# Altium integrated library Linear Technology Power Management Hot Swap Controllers.IntLib: 992 symbols (part 76 of 93)
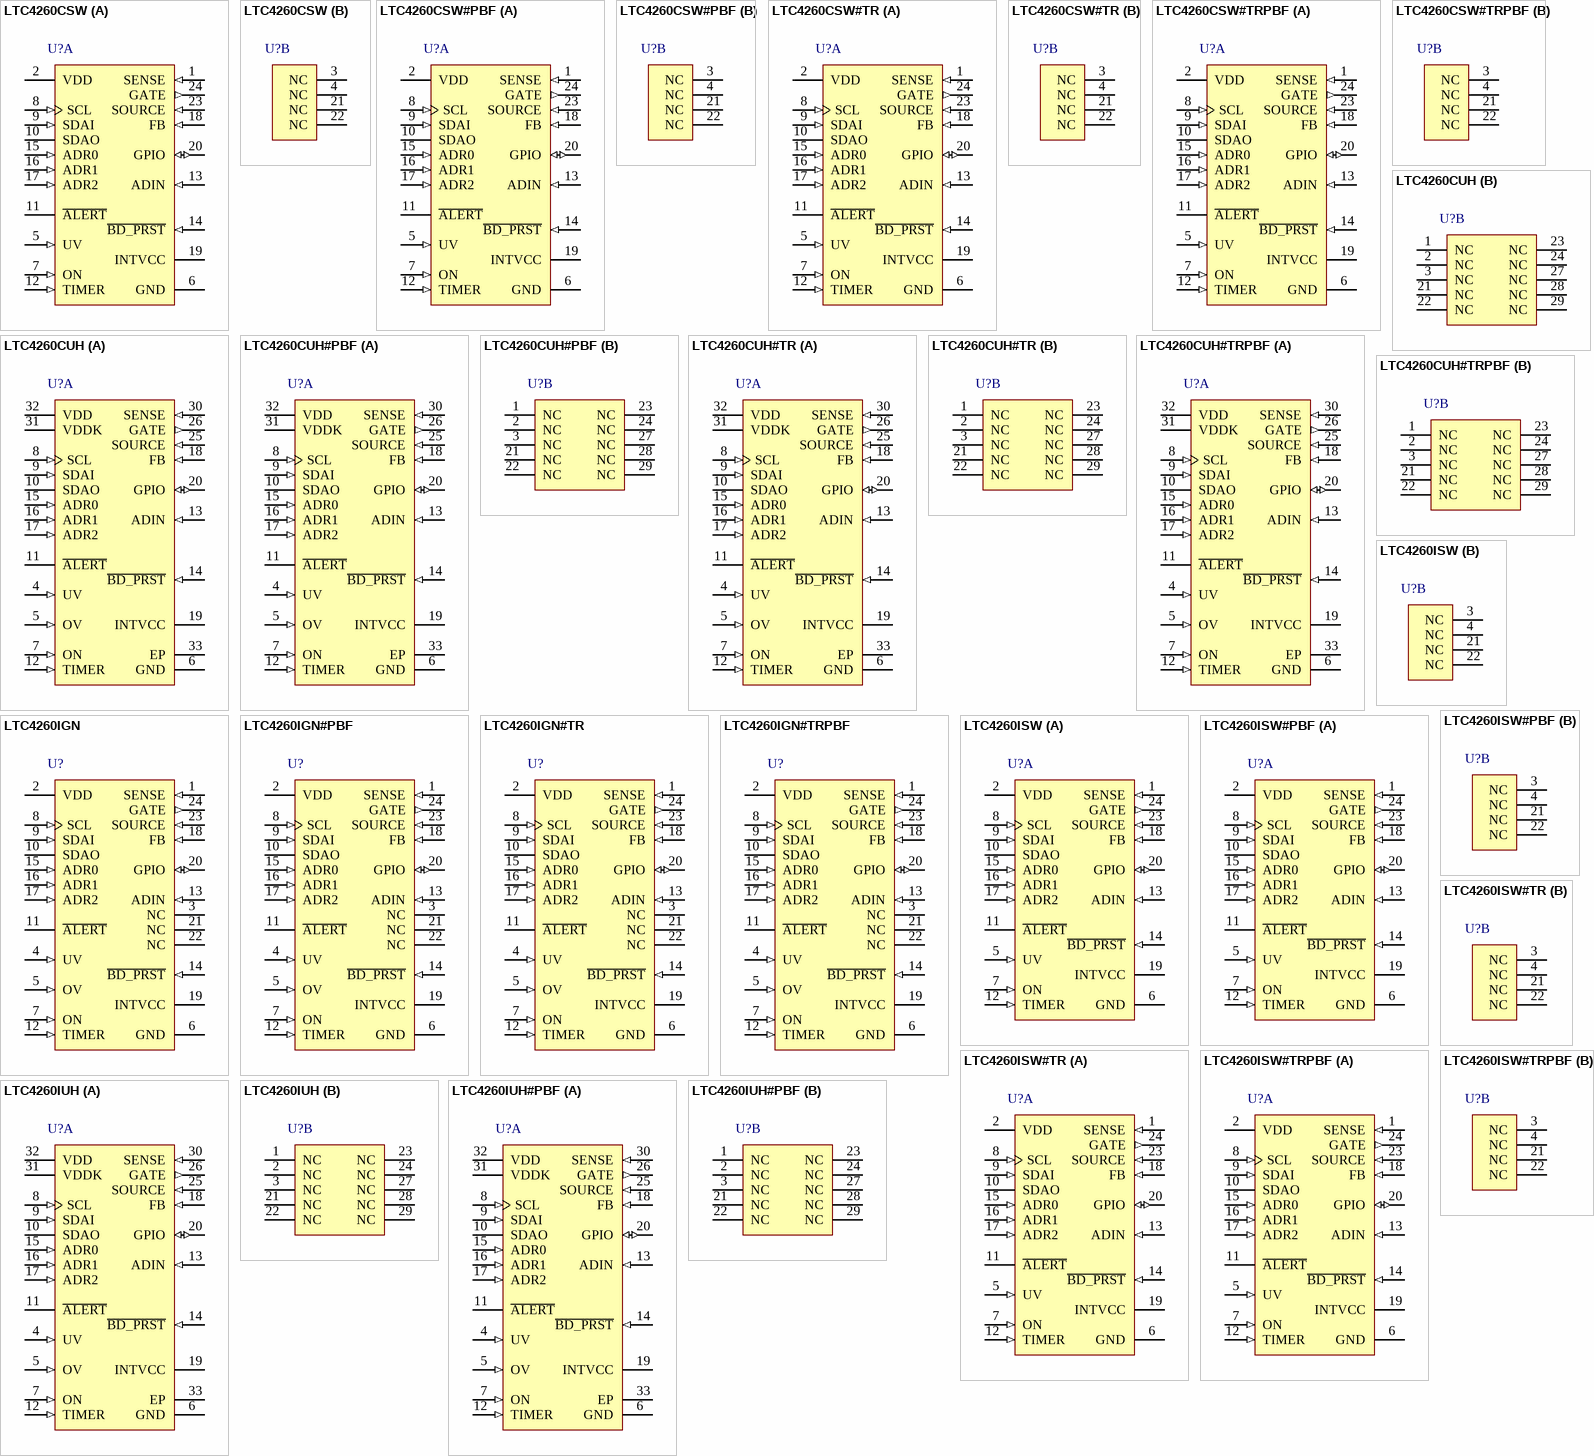
[diagram p112: symbols LTC4260CSW to LTC4260IUH#PBF]

## LTC4260IUH#PBF
designator U?
Positive High Voltage Hot Swap Controller with I2C Compatible Monitoring, 8.5 to 80 V Vin, 32-pin QFN (UH-32), -40 to 85 degC, Pb-Free; Manufacturer: Linear Technology; PartNumber: LTC4260IUH#PBF; Active Limiting: yes; ADC: 8-bit; Circuit Breaker Accuracy(%): 10; Circuit Breaker Threshold: 50 mV; Circuit Breakers(#): 1; Extended Temp: C, I; Fast Comparator: no; In-Rush Current: Active; DatasheetVersion: Rev. C; PackageVersion: Rev. D, 06/2010; PackageReference: UH-32; PackageDescription: 32-Pin Plastic QFN, Body 5 x 5 mm, Pitch 0.5 mm; Supplier 1: Digi-Key; Supplier Part Number 1: LTC4260IUH#PBF-ND; Supplier 2: Farnell; Supplier Part Number 2: 2295343; Supplier 3: Newark; Supplier Part Number 3: 56M9128; Fault: yes; Foldback: yes; Power Good: yes; Reset: no; RoHS: TRUE; Vin Range: 8.5 to 80 V; Mounting Technology: Surface Mount; Code_JEDEC: MO-220; ComponentLink1Description: Manufacturer URL; ComponentLink1URL: http://www.linear.com/; ComponentLink2Description: Datasheet; ComponentLink2URL: http://cds.linear.com/docs/en/datasheet/4260fc.pdf; ComponentLink3Description: Package Specification; ComponentLink3URL: http://cds.linear.com/docs/en/packaging/QFN_32_05-08-1693.pdf
footprint LT-UH-32_N (QFN, 32-Leads, Body 5.1x5.1mm, Pitch 0.5mm, Thermal Pad 3.45X3.45mm, IPC Medium Density)
footprint LT-UH-32_L (QFN, 32-Leads, Body 5.1x5.1mm, Pitch 0.5mm, Thermal Pad 3.45X3.45mm, IPC High Density)
footprint LT-UH-32_M (QFN, 32-Leads, Body 5.1x5.1mm, Pitch 0.5mm, Thermal Pad 3.45X3.45mm, IPC Low Density)
part A pins: 4 UV (in) "Undervoltage Comparator Input. Connect this pin to an external resistive divider from VDD. If the voltage at this pin falls below 3.12V, an undervoltage fault is detected and the switch turns off. Pulling this pin below 1.2V (See Datasheet)", 5 OV (in) "Overvoltage Comparator Input. Connect this pin to an external resistive divider from VDD. If the voltage at this pin rises above 3.5V, an overvoltage fault is detected and the switch turns off. Tie to GND if unused.", 6 GND (power) "Device Ground.", 7 ON (in) "On Control Input. A rising edge turns on the external N-channel FET and a falling edge turns it off. This pin is also used to configure the state of the FET ON bit (and hence the external FET) at power up. For example if the (See Datasheet)", 8 SCL (in) "Serial Bus Clock Input. Data at the SDA pin is shifted in or out on rising edges of SCL. This is a high impedance pin that is generally driven by an open-collector output from a master controller. An external pull-up (See Datasheet)", 9 SDAI (in) "Serial Bus Data Input. A high impedance input used for shifting in address, command or data bits. Normally tied to SDAO to form the SDA line.", 10 SDAO (oc) "Serial Bus Data Output. Open-drain output used for sending data back to the master controller or acknowledging a write operation. Normally tied to SDAI to form the SDA line. An external pull-up resistor or current source is (See Datasheet)", 11 ~{ALERT} (oc) "Fault Alert Output. Open-drain logic output that can be pulled to ground when a fault occurs to alert the host controller. A fault alert is enabled by the ALERT register. This device is compatible with SMBus alert protocol. (See Datasheet)", 12 TIMER (in) "Timer Input. Connect a capacitor between this pin and ground to set a 12ms/uF duration for current limit before the switch is turned off. The duration of the off time is 518ms/uF when autoretry during current limit is (See Datasheet)", 13 ADIN (in) "ADC Input. A voltage between 0V and 2.56V applied to this pin can be measured by the onboard ADC. Tie to ground if unused.", 14 ~{BD_PRST} (in) "Board Present Input. Ground this pin to enable the N-channel FET to turn on after 100ms debounce delay. When this pin is high, the FET is off. An internal 10uA current source pulls up this pin. Transitions on this pin will (See Datasheet)", 15 ADR0 (in) "Serial Bus Address Inputs. Tying these pins to ground, open or INTVCC configures one of 27 possible addresses. See Table 1 in Applications Information.", 16 ADR1 (in) "Serial Bus Address Inputs. Tying these pins to ground, open or INTVCC configures one of 27 possible addresses. See Table 1 in Applications Information.", 17 ADR2 (in) "Serial Bus Address Inputs. Tying these pins to ground, open or INTVCC configures one of 27 possible addresses. See Table 1 in Applications Information.", 18 FB (in) "Foldback and Power Good Input. A resistive divider from the output voltage is tied to this pin. When the voltage at this pin drops below 3.41V, the output power is considered bad and the current limit is reduced. The power (See Datasheet)", 19 INTVCC (power) "Internal Low Voltage Supply Decoupling Output. Connect a 0.1uF capacitor from this pin to ground. This pin can be used to drive the other pins to logic high and has an undervoltage lockout threshold of 3.8V.", 20 GPIO (io) "General Purpose Input/Output. Open-drain logic output and logic input. Defaults to pull low to indicate power is bad. Configure according to Table 3.", 25 SOURCE (in) "N-Channel MOSFET Source Connection and ADC Input. Connect this pin to the source of the external N-channel MOSFET switch. This pin also serves as the ADC input to monitor output voltage. The pin provides a return for the (See Datasheet)", 26 GATE (out) "Gate Drive for External N-Channel FET. An internal 18uA current source charges the gate of the external N-channel MOSFET. A resistor and capacitor network from this pin to ground sets the turn-on rate and compensates th(See Datasheet)", 30 SENSE (in) "Current Sense Input. Connect this pin to the output of the current sense resistor. The current limit circuit controls the GATE pin to limit the sense voltage between the VDD and SENSE pins to 50mV or less depending on the (See Datasheet)", 31 VDDK (power) "Same as VDD. Connect this pin to VDD. VDDK tied to VDD internally with 18ohm.", 32 VDD (power) "Supply Voltage and Current Sense Input. This pin has an undervoltage lockout threshold of 7.45V.", 33 EP (power) "Exposed pad may be left open or connected to device ground."
part B pins: 1 NC "No Connect. Unconnected pins. These pins provide extra distance between high and low voltage pins.", 2 NC "No Connect. Unconnected pins. These pins provide extra distance between high and low voltage pins.", 3 NC "No Connect. Unconnected pins. These pins provide extra distance between high and low voltage pins.", 21 NC "No Connect. Unconnected pins. These pins provide extra distance between high and low voltage pins.", 22 NC "No Connect. Unconnected pins. These pins provide extra distance between high and low voltage pins.", 23 NC "No Connect. Unconnected pins. These pins provide extra distance between high and low voltage pins.", 24 NC "No Connect. Unconnected pins. These pins provide extra distance between high and low voltage pins.", 27 NC "No Connect. Unconnected pins. These pins provide extra distance between high and low voltage pins.", 28 NC "No Connect. Unconnected pins. These pins provide extra distance between high and low voltage pins.", 29 NC "No Connect. Unconnected pins. These pins provide extra distance between high and low voltage pins."

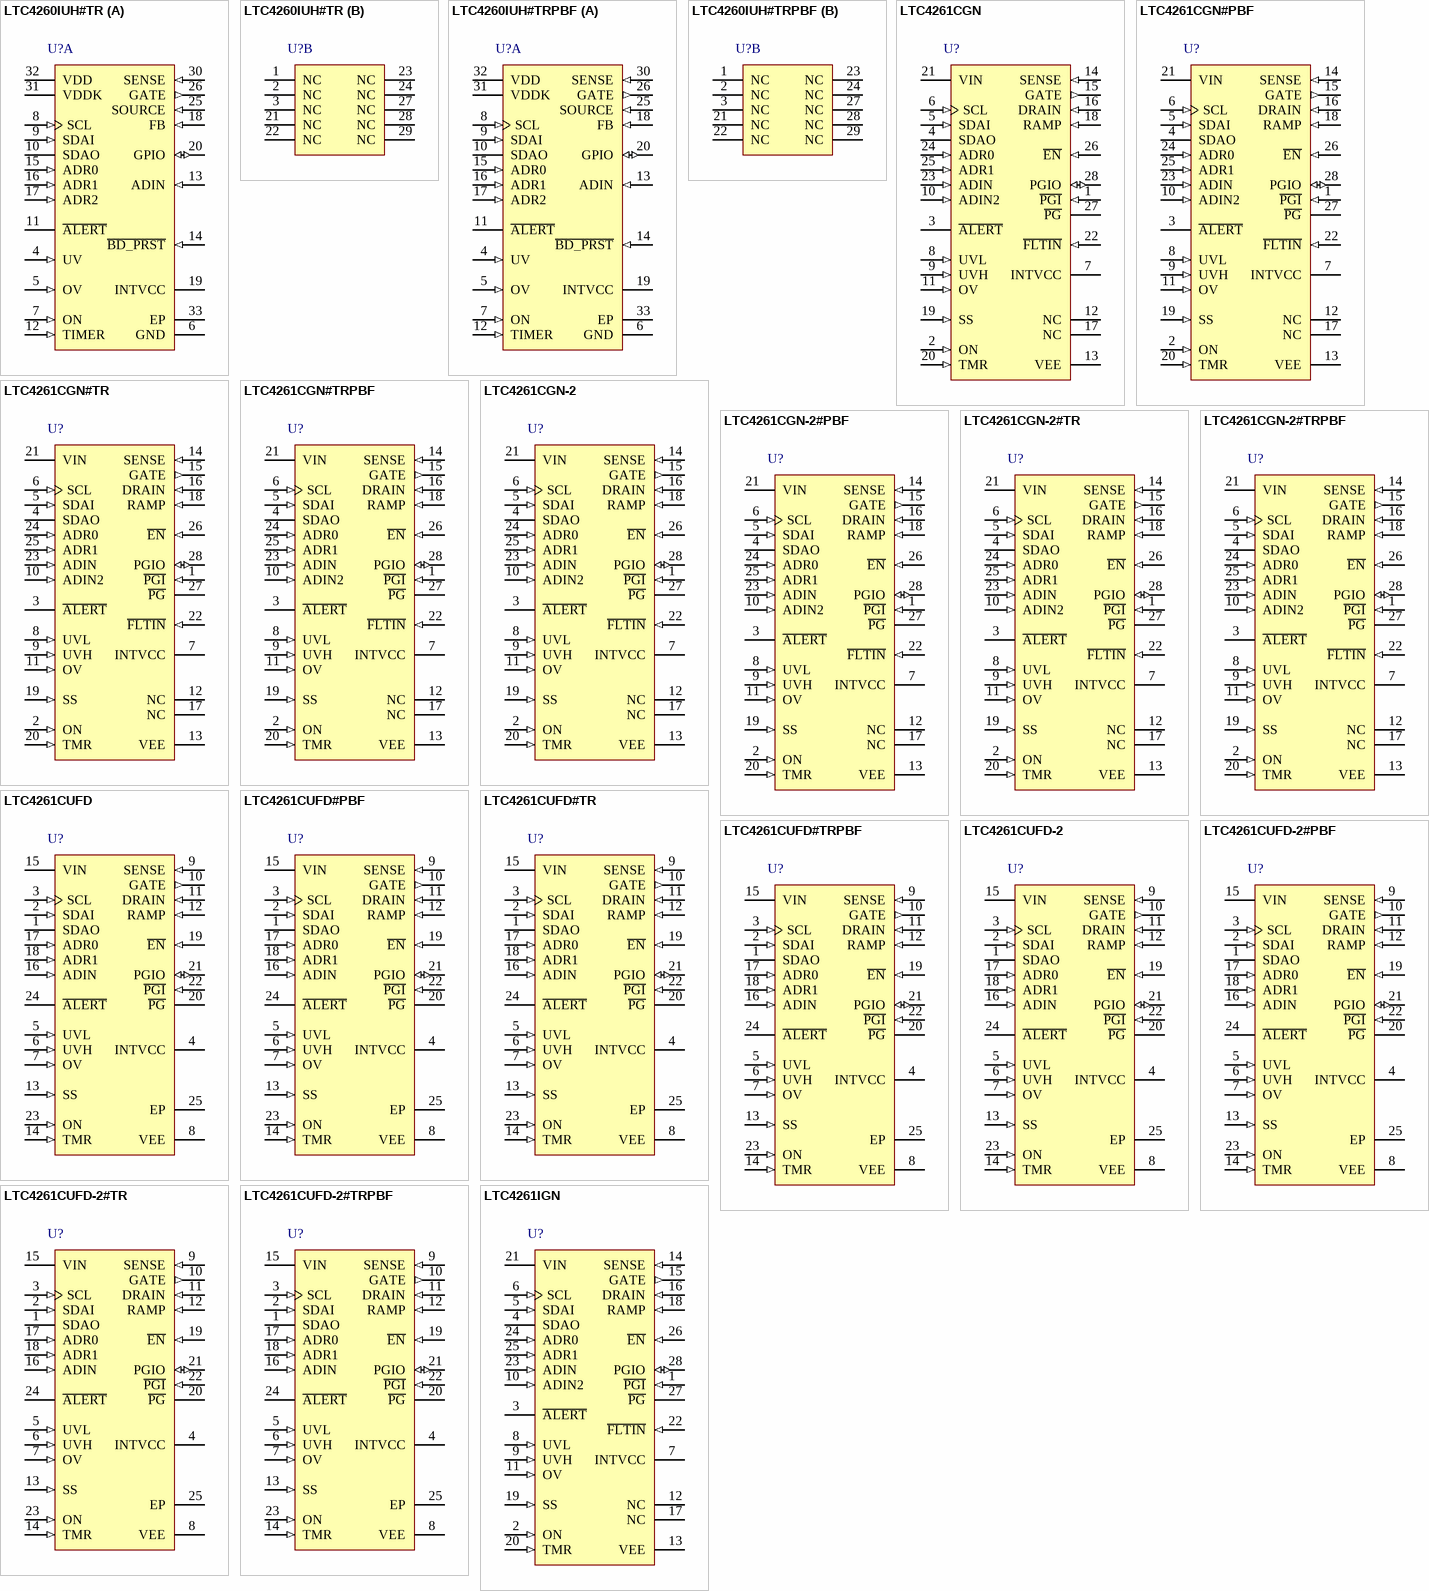
[diagram p31: symbols LTC4260IUH#TR to LTC4261IGN]

## LTC4260IUH#TR
designator U?
Positive High Voltage Hot Swap Controller with I2C Compatible Monitoring, 8.5 to 80 V Vin, 32-pin QFN (UH-32), -40 to 85 degC, Tape and Reel; Manufacturer: Linear Technology; PartNumber: LTC4260IUH#TR; Active Limiting: yes; ADC: 8-bit; Circuit Breaker Accuracy(%): 10; Circuit Breaker Threshold: 50 mV; Circuit Breakers(#): 1; Extended Temp: C, I; Fast Comparator: no; In-Rush Current: Active; DatasheetVersion: Rev. C; PackageVersion: Rev. D, 06/2010; PackageReference: UH-32; PackageDescription: 32-Pin Plastic QFN, Body 5 x 5 mm, Pitch 0.5 mm; Fault: yes; Foldback: yes; Packing: Tape and Reel; Power Good: yes; Reset: no; RoHS: FALSE; Vin Range: 8.5 to 80 V; Mounting Technology: Surface Mount; Code_JEDEC: MO-220; ComponentLink1Description: Manufacturer URL; ComponentLink1URL: http://www.linear.com/; ComponentLink2Description: Datasheet; ComponentLink2URL: http://cds.linear.com/docs/en/datasheet/4260fc.pdf; ComponentLink3Description: Package Specification; ComponentLink3URL: http://cds.linear.com/docs/en/packaging/QFN_32_05-08-1693.pdf
footprint LT-UH-32_N (QFN, 32-Leads, Body 5.1x5.1mm, Pitch 0.5mm, Thermal Pad 3.45X3.45mm, IPC Medium Density)
footprint LT-UH-32_L (QFN, 32-Leads, Body 5.1x5.1mm, Pitch 0.5mm, Thermal Pad 3.45X3.45mm, IPC High Density)
footprint LT-UH-32_M (QFN, 32-Leads, Body 5.1x5.1mm, Pitch 0.5mm, Thermal Pad 3.45X3.45mm, IPC Low Density)
part A pins: 4 UV (in) "Undervoltage Comparator Input. Connect this pin to an external resistive divider from VDD. If the voltage at this pin falls below 3.12V, an undervoltage fault is detected and the switch turns off. Pulling this pin below 1.2V (See Datasheet)", 5 OV (in) "Overvoltage Comparator Input. Connect this pin to an external resistive divider from VDD. If the voltage at this pin rises above 3.5V, an overvoltage fault is detected and the switch turns off. Tie to GND if unused.", 6 GND (power) "Device Ground.", 7 ON (in) "On Control Input. A rising edge turns on the external N-channel FET and a falling edge turns it off. This pin is also used to configure the state of the FET ON bit (and hence the external FET) at power up. For example if the (See Datasheet)", 8 SCL (in) "Serial Bus Clock Input. Data at the SDA pin is shifted in or out on rising edges of SCL. This is a high impedance pin that is generally driven by an open-collector output from a master controller. An external pull-up (See Datasheet)", 9 SDAI (in) "Serial Bus Data Input. A high impedance input used for shifting in address, command or data bits. Normally tied to SDAO to form the SDA line.", 10 SDAO (oc) "Serial Bus Data Output. Open-drain output used for sending data back to the master controller or acknowledging a write operation. Normally tied to SDAI to form the SDA line. An external pull-up resistor or current source is (See Datasheet)", 11 ~{ALERT} (oc) "Fault Alert Output. Open-drain logic output that can be pulled to ground when a fault occurs to alert the host controller. A fault alert is enabled by the ALERT register. This device is compatible with SMBus alert protocol. (See Datasheet)", 12 TIMER (in) "Timer Input. Connect a capacitor between this pin and ground to set a 12ms/uF duration for current limit before the switch is turned off. The duration of the off time is 518ms/uF when autoretry during current limit is (See Datasheet)", 13 ADIN (in) "ADC Input. A voltage between 0V and 2.56V applied to this pin can be measured by the onboard ADC. Tie to ground if unused.", 14 ~{BD_PRST} (in) "Board Present Input. Ground this pin to enable the N-channel FET to turn on after 100ms debounce delay. When this pin is high, the FET is off. An internal 10uA current source pulls up this pin. Transitions on this pin will (See Datasheet)", 15 ADR0 (in) "Serial Bus Address Inputs. Tying these pins to ground, open or INTVCC configures one of 27 possible addresses. See Table 1 in Applications Information.", 16 ADR1 (in) "Serial Bus Address Inputs. Tying these pins to ground, open or INTVCC configures one of 27 possible addresses. See Table 1 in Applications Information.", 17 ADR2 (in) "Serial Bus Address Inputs. Tying these pins to ground, open or INTVCC configures one of 27 possible addresses. See Table 1 in Applications Information.", 18 FB (in) "Foldback and Power Good Input. A resistive divider from the output voltage is tied to this pin. When the voltage at this pin drops below 3.41V, the output power is considered bad and the current limit is reduced. The power (See Datasheet)", 19 INTVCC (power) "Internal Low Voltage Supply Decoupling Output. Connect a 0.1uF capacitor from this pin to ground. This pin can be used to drive the other pins to logic high and has an undervoltage lockout threshold of 3.8V.", 20 GPIO (io) "General Purpose Input/Output. Open-drain logic output and logic input. Defaults to pull low to indicate power is bad. Configure according to Table 3.", 25 SOURCE (in) "N-Channel MOSFET Source Connection and ADC Input. Connect this pin to the source of the external N-channel MOSFET switch. This pin also serves as the ADC input to monitor output voltage. The pin provides a return for the (See Datasheet)", 26 GATE (out) "Gate Drive for External N-Channel FET. An internal 18uA current source charges the gate of the external N-channel MOSFET. A resistor and capacitor network from this pin to ground sets the turn-on rate and compensates th(See Datasheet)", 30 SENSE (in) "Current Sense Input. Connect this pin to the output of the current sense resistor. The current limit circuit controls the GATE pin to limit the sense voltage between the VDD and SENSE pins to 50mV or less depending on the (See Datasheet)", 31 VDDK (power) "Same as VDD. Connect this pin to VDD. VDDK tied to VDD internally with 18ohm.", 32 VDD (power) "Supply Voltage and Current Sense Input. This pin has an undervoltage lockout threshold of 7.45V.", 33 EP (power) "Exposed pad may be left open or connected to device ground."
part B pins: 1 NC "No Connect. Unconnected pins. These pins provide extra distance between high and low voltage pins.", 2 NC "No Connect. Unconnected pins. These pins provide extra distance between high and low voltage pins.", 3 NC "No Connect. Unconnected pins. These pins provide extra distance between high and low voltage pins.", 21 NC "No Connect. Unconnected pins. These pins provide extra distance between high and low voltage pins.", 22 NC "No Connect. Unconnected pins. These pins provide extra distance between high and low voltage pins.", 23 NC "No Connect. Unconnected pins. These pins provide extra distance between high and low voltage pins.", 24 NC "No Connect. Unconnected pins. These pins provide extra distance between high and low voltage pins.", 27 NC "No Connect. Unconnected pins. These pins provide extra distance between high and low voltage pins.", 28 NC "No Connect. Unconnected pins. These pins provide extra distance between high and low voltage pins.", 29 NC "No Connect. Unconnected pins. These pins provide extra distance between high and low voltage pins."

## LTC4260IUH#TRPBF
designator U?
Positive High Voltage Hot Swap Controller with I2C Compatible Monitoring, 8.5 to 80 V Vin, 32-pin QFN (UH-32), -40 to 85 degC, Pb-Free, Tape and Reel; Manufacturer: Linear Technology; PartNumber: LTC4260IUH#TRPBF; Active Limiting: yes; ADC: 8-bit; Circuit Breaker Accuracy(%): 10; Circuit Breaker Threshold: 50 mV; Circuit Breakers(#): 1; Extended Temp: C, I; Fast Comparator: no; In-Rush Current: Active; DatasheetVersion: Rev. C; PackageVersion: Rev. D, 06/2010; PackageReference: UH-32; PackageDescription: 32-Pin Plastic QFN, Body 5 x 5 mm, Pitch 0.5 mm; Supplier 1: Digi-Key; Supplier Part Number 1: LTC4260IUH#TRPBF-ND; Supplier 2: Newark; Supplier Part Number 2: 56M9130; Fault: yes; Foldback: yes; Packing: Tape and Reel; Power Good: yes; Reset: no; RoHS: TRUE; Vin Range: 8.5 to 80 V; Mounting Technology: Surface Mount; Code_JEDEC: MO-220; ComponentLink1Description: Manufacturer URL; ComponentLink1URL: http://www.linear.com/; ComponentLink2Description: Datasheet; ComponentLink2URL: http://cds.linear.com/docs/en/datasheet/4260fc.pdf; ComponentLink3Description: Package Specification; ComponentLink3URL: http://cds.linear.com/docs/en/packaging/QFN_32_05-08-1693.pdf
footprint LT-UH-32_N (QFN, 32-Leads, Body 5.1x5.1mm, Pitch 0.5mm, Thermal Pad 3.45X3.45mm, IPC Medium Density)
footprint LT-UH-32_L (QFN, 32-Leads, Body 5.1x5.1mm, Pitch 0.5mm, Thermal Pad 3.45X3.45mm, IPC High Density)
footprint LT-UH-32_M (QFN, 32-Leads, Body 5.1x5.1mm, Pitch 0.5mm, Thermal Pad 3.45X3.45mm, IPC Low Density)
part A pins: 4 UV (in) "Undervoltage Comparator Input. Connect this pin to an external resistive divider from VDD. If the voltage at this pin falls below 3.12V, an undervoltage fault is detected and the switch turns off. Pulling this pin below 1.2V (See Datasheet)", 5 OV (in) "Overvoltage Comparator Input. Connect this pin to an external resistive divider from VDD. If the voltage at this pin rises above 3.5V, an overvoltage fault is detected and the switch turns off. Tie to GND if unused.", 6 GND (power) "Device Ground.", 7 ON (in) "On Control Input. A rising edge turns on the external N-channel FET and a falling edge turns it off. This pin is also used to configure the state of the FET ON bit (and hence the external FET) at power up. For example if the (See Datasheet)", 8 SCL (in) "Serial Bus Clock Input. Data at the SDA pin is shifted in or out on rising edges of SCL. This is a high impedance pin that is generally driven by an open-collector output from a master controller. An external pull-up (See Datasheet)", 9 SDAI (in) "Serial Bus Data Input. A high impedance input used for shifting in address, command or data bits. Normally tied to SDAO to form the SDA line.", 10 SDAO (oc) "Serial Bus Data Output. Open-drain output used for sending data back to the master controller or acknowledging a write operation. Normally tied to SDAI to form the SDA line. An external pull-up resistor or current source is (See Datasheet)", 11 ~{ALERT} (oc) "Fault Alert Output. Open-drain logic output that can be pulled to ground when a fault occurs to alert the host controller. A fault alert is enabled by the ALERT register. This device is compatible with SMBus alert protocol. (See Datasheet)", 12 TIMER (in) "Timer Input. Connect a capacitor between this pin and ground to set a 12ms/uF duration for current limit before the switch is turned off. The duration of the off time is 518ms/uF when autoretry during current limit is (See Datasheet)", 13 ADIN (in) "ADC Input. A voltage between 0V and 2.56V applied to this pin can be measured by the onboard ADC. Tie to ground if unused.", 14 ~{BD_PRST} (in) "Board Present Input. Ground this pin to enable the N-channel FET to turn on after 100ms debounce delay. When this pin is high, the FET is off. An internal 10uA current source pulls up this pin. Transitions on this pin will (See Datasheet)", 15 ADR0 (in) "Serial Bus Address Inputs. Tying these pins to ground, open or INTVCC configures one of 27 possible addresses. See Table 1 in Applications Information.", 16 ADR1 (in) "Serial Bus Address Inputs. Tying these pins to ground, open or INTVCC configures one of 27 possible addresses. See Table 1 in Applications Information.", 17 ADR2 (in) "Serial Bus Address Inputs. Tying these pins to ground, open or INTVCC configures one of 27 possible addresses. See Table 1 in Applications Information.", 18 FB (in) "Foldback and Power Good Input. A resistive divider from the output voltage is tied to this pin. When the voltage at this pin drops below 3.41V, the output power is considered bad and the current limit is reduced. The power (See Datasheet)", 19 INTVCC (power) "Internal Low Voltage Supply Decoupling Output. Connect a 0.1uF capacitor from this pin to ground. This pin can be used to drive the other pins to logic high and has an undervoltage lockout threshold of 3.8V.", 20 GPIO (io) "General Purpose Input/Output. Open-drain logic output and logic input. Defaults to pull low to indicate power is bad. Configure according to Table 3.", 25 SOURCE (in) "N-Channel MOSFET Source Connection and ADC Input. Connect this pin to the source of the external N-channel MOSFET switch. This pin also serves as the ADC input to monitor output voltage. The pin provides a return for the (See Datasheet)", 26 GATE (out) "Gate Drive for External N-Channel FET. An internal 18uA current source charges the gate of the external N-channel MOSFET. A resistor and capacitor network from this pin to ground sets the turn-on rate and compensates th(See Datasheet)", 30 SENSE (in) "Current Sense Input. Connect this pin to the output of the current sense resistor. The current limit circuit controls the GATE pin to limit the sense voltage between the VDD and SENSE pins to 50mV or less depending on the (See Datasheet)", 31 VDDK (power) "Same as VDD. Connect this pin to VDD. VDDK tied to VDD internally with 18ohm.", 32 VDD (power) "Supply Voltage and Current Sense Input. This pin has an undervoltage lockout threshold of 7.45V.", 33 EP (power) "Exposed pad may be left open or connected to device ground."
part B pins: 1 NC "No Connect. Unconnected pins. These pins provide extra distance between high and low voltage pins.", 2 NC "No Connect. Unconnected pins. These pins provide extra distance between high and low voltage pins.", 3 NC "No Connect. Unconnected pins. These pins provide extra distance between high and low voltage pins.", 21 NC "No Connect. Unconnected pins. These pins provide extra distance between high and low voltage pins.", 22 NC "No Connect. Unconnected pins. These pins provide extra distance between high and low voltage pins.", 23 NC "No Connect. Unconnected pins. These pins provide extra distance between high and low voltage pins.", 24 NC "No Connect. Unconnected pins. These pins provide extra distance between high and low voltage pins.", 27 NC "No Connect. Unconnected pins. These pins provide extra distance between high and low voltage pins.", 28 NC "No Connect. Unconnected pins. These pins provide extra distance between high and low voltage pins.", 29 NC "No Connect. Unconnected pins. These pins provide extra distance between high and low voltage pins."

## LTC4261CGN
designator U?
Negative Voltage Hot Swap Controller with ADC and I2C Monitoring, -12 to -100 V Vin, 28-pin SOP (GN-28), 0 to 70 degC; Manufacturer: Linear Technology; PartNumber: LTC4261CGN; Active Limiting: yes; ADC: 10-bit; Circuit Breaker Accuracy(%): 10; Circuit Breaker Threshold: 50 mV; Circuit Breakers(#): 1; Extended Temp: C, I; Fast Comparator: no; In-Rush Current: Active/SS; DatasheetVersion: Rev. C; PackageVersion: Rev. B, 03/2012; PackageReference: GN-28; PackageDescription: 28-Pin Plastic SSOP, Body 9.9 x 3.9 mm, Pitch 0.635 mm; Supplier 1: Digi-Key; Supplier Part Number 1: LTC4261CGN-ND; Supplier 2: Newark; Supplier Part Number 2: 56M9131; Fault: yes; Foldback: no; Power Good: yes; Reset: no; RoHS: FALSE; Vin Range: -12 to -100 V; Mounting Technology: Surface Mount; ComponentLink1Description: Manufacturer URL; ComponentLink1URL: http://www.linear.com/; ComponentLink2Description: Datasheet; ComponentLink2URL: http://cds.linear.com/docs/en/datasheet/42612fc.pdf; ComponentLink3Description: Package Specification; ComponentLink3URL: http://cds.linear.com/docs/en/packaging/05081641_B_GN28.pdf
footprint LT-GN-28_N (SOP, 28-Leads, Body 9.98x3.98mm, Pitch 0.635mm, IPC Medium Density)
footprint LT-GN-28_L (SOP, 28-Leads, Body 9.98x3.98mm, Pitch 0.635mm, IPC High Density)
footprint LT-GN-28_M (SOP, 28-Leads, Body 9.98x3.98mm, Pitch 0.635mm, IPC Low Density)
pins: 1 ~{PGI} (in) "Power Good Input. This pin along with the P\G\I\ check timer serves as a watchdog to monitor the power-up of the DC/DC converter. The P\G\I\ pin must be low before the P\G\I\ check timer expires, otherwise the GATE pin pulls (See Datasheet)", 2 ON (in) "On Control Input. A rising edge turns on the external N-channel FET while a falling edge turns it off. This pin is also used to configure the state of the FET ON register bit D3 in the CONTROL register (and hence the (See Datasheet)", 3 ~{ALERT} (oc) "Fault Alert Output. Open-drain logic output that pulls to VEE when a fault occurs to alert the host controller. A fault alert is enabled by the A\L\E\R\T\ register. See Applications Information. Connect to VEE if unused.", 4 SDAO (oc) "Serial Bus Data Output. Open-drain output used for sending data back to the master controller or acknowledging a write operation. An external pull-up resistor or current source is required. Normally connected to the input of (See Datasheet)", 5 SDAI (in) "Serial Bus Data Input. This is a high impedance input pin used for shifting in command bits, data bits and SDAO acknowledge bits. An external pull-up resistor or current source is required. Normally connected to the output (See Datasheet)", 6 SCL (in) "Serial Bus Clock Input. Data at the SDAI pin is shifted in and data at the SDAO pin is shifted out on rising edges of SCL. This is a high impedance pin that is generally connected to the output of the incoming optoisolator (See Datasheet)", 7 INTVCC (power) "Low Voltage (5V) Supply Output. This is the output of the internal linear regulator with an internal UVLO threshold of 4.25V. This voltage powers up the data converter and logic control circuitry. Bypass this pin with a 0.(See Datasheet)", 8 UVL (in) "Undervoltage Low Level Input. Connect this pin to an external resistive divider from VEE. If the voltage at the UVL pin drops below 2.291V, the pass transistor is turned off and the power good outputs go high impedance. (See Datasheet)", 9 UVH (in) "Undervoltage High Level Input. Connect this pin to an external resistive divider from VEE. If the voltage at the UVH pin rises above 2.56V the pass transistor is allowed to turn on. A small capacitor at this pin prevents (See Datasheet)", 10 ADIN2 (in) "Second ADC Input. Not available on QFN package.", 11 OV (in) "Overvoltage Detection Input. Connect this pin to an external resistive divider from VEE. If the voltage at the pin rises above 1.77V, the N-channel FET is turned off. The overvoltage condition does not affect the status of (See Datasheet)", 12 NC, 13 VEE (power) "Negative Supply Voltage Input and Device Ground. Connect this pin to the negative side of the power supply.", 14 SENSE (in) "Current Limit Sense Input. Load current through the external sense resistor (RS) is monitored and controlled by an active current limit amplifier to 50mV/RS. Once VSENSE reaches 50mV, a circuit breaker timer starts and turns (See Datasheet)", 15 GATE (out) "N-Channel FET Gate Drive Output. This pin is pulled up by an internal current source IGATE (11.5uA when the SS pin reaches its clamping voltage). GATE stays low until VIN and INTVCC cross the UVLO thresholds, UV and OV (See Datasheet)", 16 DRAIN (in) "Drain Sense Input. Connect an external 1M resistor between this pin and the drain terminal (VOUT) of the N-channel FET. When the DRAIN pin voltage is less than 1.77V and the GATE pin voltage is above VZ - 1.2V the power good (See Datasheet)", 17 NC, 18 RAMP (in) "Inrush Current Ramp Control Pin. The inrush current is set by placing a capacitor (CR) between the RAMP pin and the drain terminal of the FET. At start-up, the GATE pin is pulled up by IGATE(UP) until the pass transistor (See Datasheet)", 19 SS (in) "Soft-Start Input. Connect a capacitor to this pin to control the rate of rise of inrush current (dI/dt) during start-up. An internal 10uA current source charging the external soft start capacitor (CSS) creates a voltage ramp.(See Datasheet)", 20 TMR (in) "Delay Timer Input. Connect a capacitor (CTMR) to this pin to create timing delays at start-up, when power good outputs pull down, during P\G\I\ check and when auto-retrying after faults (except overvoltage fault). Internal (See Datasheet)", 21 VIN (power) "Positive Supply Input. Connect this pin to the positive supply through a dropping resistor. An internal shunt regulator clamps VIN at 11.2V. An internal undervoltage lockout (UVLO) circuit holds the GATE low until VIN is (See Datasheet)", 22 ~{FLTIN} (in) "General Purpose Fault Input. If this pin pulls low, the FAULT register bit B7 is latched to ?.?This pin is used to sense an external fault condition and its status does not affect the FET control functions of (See Datasheet)", 23 ADIN (in) "ADC Input. A voltage between 0V and 2.56V applied to this pin is measured by the on-chip ADC. Tie to VEE if unused.", 24 ADR0 (in) "Serial Bus Address Inputs. Tying these pins to VEE, OPEN or INTVCC configures one of nine possible addresses. See Table 1 in Applications Information.", 25 ADR1 (in) "Serial Bus Address Inputs. Tying these pins to VEE, OPEN or INTVCC configures one of nine possible addresses. See Table 1 in Applications Information.", 26 ~{EN} (in) "Device Enable Input. Pull low to enable the N-channel FET to turn-on after a start-up debounce delay set by the TMR pin. When this pin is pulled high, the FET is off. Transitions on this pin will be recorded in the FAULT (See Datasheet)", 27 ~{PG} (hiz) "Power Good Status Output. This open drain pin pulls low and stays latched a timer delay after the FET is on (when GATE reaches VZ - 1.2V and DRAIN is within 1.77V of VEE). The power good output is reset in all GATE pull-down (See Datasheet)", 28 PGIO (io) "General Purpose Input/Output. Open-drain logic output and logic input. Defaults to pull low a timer delay after the P\G\ pin goes low to indicate a second power good output. Configure according to Table 6."

## LTC4261CGN#PBF
designator U?
Negative Voltage Hot Swap Controller with ADC and I2C Monitoring, -12 to -100 V Vin, 28-pin SOP (GN-28), 0 to 70 degC, Pb-Free; Manufacturer: Linear Technology; PartNumber: LTC4261CGN#PBF; Active Limiting: yes; ADC: 10-bit; Circuit Breaker Accuracy(%): 10; Circuit Breaker Threshold: 50 mV; Circuit Breakers(#): 1; Extended Temp: C, I; Fast Comparator: no; In-Rush Current: Active/SS; DatasheetVersion: Rev. C; PackageVersion: Rev. B, 03/2012; PackageReference: GN-28; PackageDescription: 28-Pin Plastic SSOP, Body 9.9 x 3.9 mm, Pitch 0.635 mm; Supplier 1: Digi-Key; Supplier Part Number 1: LTC4261CGN#PBF-ND; Supplier 2: Newark; Supplier Part Number 2: 56M9136; Fault: yes; Foldback: no; Power Good: yes; Reset: no; RoHS: TRUE; Vin Range: -12 to -100 V; Mounting Technology: Surface Mount; ComponentLink1Description: Manufacturer URL; ComponentLink1URL: http://www.linear.com/; ComponentLink2Description: Datasheet; ComponentLink2URL: http://cds.linear.com/docs/en/datasheet/42612fc.pdf; ComponentLink3Description: Package Specification; ComponentLink3URL: http://cds.linear.com/docs/en/packaging/05081641_B_GN28.pdf
footprint LT-GN-28_N (SOP, 28-Leads, Body 9.98x3.98mm, Pitch 0.635mm, IPC Medium Density)
footprint LT-GN-28_L (SOP, 28-Leads, Body 9.98x3.98mm, Pitch 0.635mm, IPC High Density)
footprint LT-GN-28_M (SOP, 28-Leads, Body 9.98x3.98mm, Pitch 0.635mm, IPC Low Density)
pins: 1 ~{PGI} (in) "Power Good Input. This pin along with the P\G\I\ check timer serves as a watchdog to monitor the power-up of the DC/DC converter. The P\G\I\ pin must be low before the P\G\I\ check timer expires, otherwise the GATE pin pulls (See Datasheet)", 2 ON (in) "On Control Input. A rising edge turns on the external N-channel FET while a falling edge turns it off. This pin is also used to configure the state of the FET ON register bit D3 in the CONTROL register (and hence the (See Datasheet)", 3 ~{ALERT} (oc) "Fault Alert Output. Open-drain logic output that pulls to VEE when a fault occurs to alert the host controller. A fault alert is enabled by the A\L\E\R\T\ register. See Applications Information. Connect to VEE if unused.", 4 SDAO (oc) "Serial Bus Data Output. Open-drain output used for sending data back to the master controller or acknowledging a write operation. An external pull-up resistor or current source is required. Normally connected to the input of (See Datasheet)", 5 SDAI (in) "Serial Bus Data Input. This is a high impedance input pin used for shifting in command bits, data bits and SDAO acknowledge bits. An external pull-up resistor or current source is required. Normally connected to the output (See Datasheet)", 6 SCL (in) "Serial Bus Clock Input. Data at the SDAI pin is shifted in and data at the SDAO pin is shifted out on rising edges of SCL. This is a high impedance pin that is generally connected to the output of the incoming optoisolator (See Datasheet)", 7 INTVCC (power) "Low Voltage (5V) Supply Output. This is the output of the internal linear regulator with an internal UVLO threshold of 4.25V. This voltage powers up the data converter and logic control circuitry. Bypass this pin with a 0.(See Datasheet)", 8 UVL (in) "Undervoltage Low Level Input. Connect this pin to an external resistive divider from VEE. If the voltage at the UVL pin drops below 2.291V, the pass transistor is turned off and the power good outputs go high impedance. (See Datasheet)", 9 UVH (in) "Undervoltage High Level Input. Connect this pin to an external resistive divider from VEE. If the voltage at the UVH pin rises above 2.56V the pass transistor is allowed to turn on. A small capacitor at this pin prevents (See Datasheet)", 10 ADIN2 (in) "Second ADC Input. Not available on QFN package.", 11 OV (in) "Overvoltage Detection Input. Connect this pin to an external resistive divider from VEE. If the voltage at the pin rises above 1.77V, the N-channel FET is turned off. The overvoltage condition does not affect the status of (See Datasheet)", 12 NC, 13 VEE (power) "Negative Supply Voltage Input and Device Ground. Connect this pin to the negative side of the power supply.", 14 SENSE (in) "Current Limit Sense Input. Load current through the external sense resistor (RS) is monitored and controlled by an active current limit amplifier to 50mV/RS. Once VSENSE reaches 50mV, a circuit breaker timer starts and turns (See Datasheet)", 15 GATE (out) "N-Channel FET Gate Drive Output. This pin is pulled up by an internal current source IGATE (11.5uA when the SS pin reaches its clamping voltage). GATE stays low until VIN and INTVCC cross the UVLO thresholds, UV and OV (See Datasheet)", 16 DRAIN (in) "Drain Sense Input. Connect an external 1M resistor between this pin and the drain terminal (VOUT) of the N-channel FET. When the DRAIN pin voltage is less than 1.77V and the GATE pin voltage is above VZ - 1.2V the power good (See Datasheet)", 17 NC, 18 RAMP (in) "Inrush Current Ramp Control Pin. The inrush current is set by placing a capacitor (CR) between the RAMP pin and the drain terminal of the FET. At start-up, the GATE pin is pulled up by IGATE(UP) until the pass transistor (See Datasheet)", 19 SS (in) "Soft-Start Input. Connect a capacitor to this pin to control the rate of rise of inrush current (dI/dt) during start-up. An internal 10uA current source charging the external soft start capacitor (CSS) creates a voltage ramp.(See Datasheet)", 20 TMR (in) "Delay Timer Input. Connect a capacitor (CTMR) to this pin to create timing delays at start-up, when power good outputs pull down, during P\G\I\ check and when auto-retrying after faults (except overvoltage fault). Internal (See Datasheet)", 21 VIN (power) "Positive Supply Input. Connect this pin to the positive supply through a dropping resistor. An internal shunt regulator clamps VIN at 11.2V. An internal undervoltage lockout (UVLO) circuit holds the GATE low until VIN is (See Datasheet)", 22 ~{FLTIN} (in) "General Purpose Fault Input. If this pin pulls low, the FAULT register bit B7 is latched to ?.?This pin is used to sense an external fault condition and its status does not affect the FET control functions of (See Datasheet)", 23 ADIN (in) "ADC Input. A voltage between 0V and 2.56V applied to this pin is measured by the on-chip ADC. Tie to VEE if unused.", 24 ADR0 (in) "Serial Bus Address Inputs. Tying these pins to VEE, OPEN or INTVCC configures one of nine possible addresses. See Table 1 in Applications Information.", 25 ADR1 (in) "Serial Bus Address Inputs. Tying these pins to VEE, OPEN or INTVCC configures one of nine possible addresses. See Table 1 in Applications Information.", 26 ~{EN} (in) "Device Enable Input. Pull low to enable the N-channel FET to turn-on after a start-up debounce delay set by the TMR pin. When this pin is pulled high, the FET is off. Transitions on this pin will be recorded in the FAULT (See Datasheet)", 27 ~{PG} (hiz) "Power Good Status Output. This open drain pin pulls low and stays latched a timer delay after the FET is on (when GATE reaches VZ - 1.2V and DRAIN is within 1.77V of VEE). The power good output is reset in all GATE pull-down (See Datasheet)", 28 PGIO (io) "General Purpose Input/Output. Open-drain logic output and logic input. Defaults to pull low a timer delay after the P\G\ pin goes low to indicate a second power good output. Configure according to Table 6."

## LTC4261CGN#TR
designator U?
Negative Voltage Hot Swap Controller with ADC and I2C Monitoring, -12 to -100 V Vin, 28-pin SOP (GN-28), 0 to 70 degC, Tape and Reel; Manufacturer: Linear Technology; PartNumber: LTC4261CGN#TR; Active Limiting: yes; ADC: 10-bit; Circuit Breaker Accuracy(%): 10; Circuit Breaker Threshold: 50 mV; Circuit Breakers(#): 1; Extended Temp: C, I; Fast Comparator: no; In-Rush Current: Active/SS; DatasheetVersion: Rev. C; PackageVersion: Rev. B, 03/2012; PackageReference: GN-28; PackageDescription: 28-Pin Plastic SSOP, Body 9.9 x 3.9 mm, Pitch 0.635 mm; Supplier 1: Digi-Key; Supplier Part Number 1: LTC4261CGN#TR-ND; Fault: yes; Foldback: no; Packing: Tape and Reel; Power Good: yes; Reset: no; RoHS: FALSE; Vin Range: -12 to -100 V; Mounting Technology: Surface Mount; ComponentLink1Description: Manufacturer URL; ComponentLink1URL: http://www.linear.com/; ComponentLink2Description: Datasheet; ComponentLink2URL: http://cds.linear.com/docs/en/datasheet/42612fc.pdf; ComponentLink3Description: Package Specification; ComponentLink3URL: http://cds.linear.com/docs/en/packaging/05081641_B_GN28.pdf
footprint LT-GN-28_N (SOP, 28-Leads, Body 9.98x3.98mm, Pitch 0.635mm, IPC Medium Density)
footprint LT-GN-28_L (SOP, 28-Leads, Body 9.98x3.98mm, Pitch 0.635mm, IPC High Density)
footprint LT-GN-28_M (SOP, 28-Leads, Body 9.98x3.98mm, Pitch 0.635mm, IPC Low Density)
pins: 1 ~{PGI} (in) "Power Good Input. This pin along with the P\G\I\ check timer serves as a watchdog to monitor the power-up of the DC/DC converter. The P\G\I\ pin must be low before the P\G\I\ check timer expires, otherwise the GATE pin pulls (See Datasheet)", 2 ON (in) "On Control Input. A rising edge turns on the external N-channel FET while a falling edge turns it off. This pin is also used to configure the state of the FET ON register bit D3 in the CONTROL register (and hence the (See Datasheet)", 3 ~{ALERT} (oc) "Fault Alert Output. Open-drain logic output that pulls to VEE when a fault occurs to alert the host controller. A fault alert is enabled by the A\L\E\R\T\ register. See Applications Information. Connect to VEE if unused.", 4 SDAO (oc) "Serial Bus Data Output. Open-drain output used for sending data back to the master controller or acknowledging a write operation. An external pull-up resistor or current source is required. Normally connected to the input of (See Datasheet)", 5 SDAI (in) "Serial Bus Data Input. This is a high impedance input pin used for shifting in command bits, data bits and SDAO acknowledge bits. An external pull-up resistor or current source is required. Normally connected to the output (See Datasheet)", 6 SCL (in) "Serial Bus Clock Input. Data at the SDAI pin is shifted in and data at the SDAO pin is shifted out on rising edges of SCL. This is a high impedance pin that is generally connected to the output of the incoming optoisolator (See Datasheet)", 7 INTVCC (power) "Low Voltage (5V) Supply Output. This is the output of the internal linear regulator with an internal UVLO threshold of 4.25V. This voltage powers up the data converter and logic control circuitry. Bypass this pin with a 0.(See Datasheet)", 8 UVL (in) "Undervoltage Low Level Input. Connect this pin to an external resistive divider from VEE. If the voltage at the UVL pin drops below 2.291V, the pass transistor is turned off and the power good outputs go high impedance. (See Datasheet)", 9 UVH (in) "Undervoltage High Level Input. Connect this pin to an external resistive divider from VEE. If the voltage at the UVH pin rises above 2.56V the pass transistor is allowed to turn on. A small capacitor at this pin prevents (See Datasheet)", 10 ADIN2 (in) "Second ADC Input. Not available on QFN package.", 11 OV (in) "Overvoltage Detection Input. Connect this pin to an external resistive divider from VEE. If the voltage at the pin rises above 1.77V, the N-channel FET is turned off. The overvoltage condition does not affect the status of (See Datasheet)", 12 NC, 13 VEE (power) "Negative Supply Voltage Input and Device Ground. Connect this pin to the negative side of the power supply.", 14 SENSE (in) "Current Limit Sense Input. Load current through the external sense resistor (RS) is monitored and controlled by an active current limit amplifier to 50mV/RS. Once VSENSE reaches 50mV, a circuit breaker timer starts and turns (See Datasheet)", 15 GATE (out) "N-Channel FET Gate Drive Output. This pin is pulled up by an internal current source IGATE (11.5uA when the SS pin reaches its clamping voltage). GATE stays low until VIN and INTVCC cross the UVLO thresholds, UV and OV (See Datasheet)", 16 DRAIN (in) "Drain Sense Input. Connect an external 1M resistor between this pin and the drain terminal (VOUT) of the N-channel FET. When the DRAIN pin voltage is less than 1.77V and the GATE pin voltage is above VZ - 1.2V the power good (See Datasheet)", 17 NC, 18 RAMP (in) "Inrush Current Ramp Control Pin. The inrush current is set by placing a capacitor (CR) between the RAMP pin and the drain terminal of the FET. At start-up, the GATE pin is pulled up by IGATE(UP) until the pass transistor (See Datasheet)", 19 SS (in) "Soft-Start Input. Connect a capacitor to this pin to control the rate of rise of inrush current (dI/dt) during start-up. An internal 10uA current source charging the external soft start capacitor (CSS) creates a voltage ramp.(See Datasheet)", 20 TMR (in) "Delay Timer Input. Connect a capacitor (CTMR) to this pin to create timing delays at start-up, when power good outputs pull down, during P\G\I\ check and when auto-retrying after faults (except overvoltage fault). Internal (See Datasheet)", 21 VIN (power) "Positive Supply Input. Connect this pin to the positive supply through a dropping resistor. An internal shunt regulator clamps VIN at 11.2V. An internal undervoltage lockout (UVLO) circuit holds the GATE low until VIN is (See Datasheet)", 22 ~{FLTIN} (in) "General Purpose Fault Input. If this pin pulls low, the FAULT register bit B7 is latched to ?.?This pin is used to sense an external fault condition and its status does not affect the FET control functions of (See Datasheet)", 23 ADIN (in) "ADC Input. A voltage between 0V and 2.56V applied to this pin is measured by the on-chip ADC. Tie to VEE if unused.", 24 ADR0 (in) "Serial Bus Address Inputs. Tying these pins to VEE, OPEN or INTVCC configures one of nine possible addresses. See Table 1 in Applications Information.", 25 ADR1 (in) "Serial Bus Address Inputs. Tying these pins to VEE, OPEN or INTVCC configures one of nine possible addresses. See Table 1 in Applications Information.", 26 ~{EN} (in) "Device Enable Input. Pull low to enable the N-channel FET to turn-on after a start-up debounce delay set by the TMR pin. When this pin is pulled high, the FET is off. Transitions on this pin will be recorded in the FAULT (See Datasheet)", 27 ~{PG} (hiz) "Power Good Status Output. This open drain pin pulls low and stays latched a timer delay after the FET is on (when GATE reaches VZ - 1.2V and DRAIN is within 1.77V of VEE). The power good output is reset in all GATE pull-down (See Datasheet)", 28 PGIO (io) "General Purpose Input/Output. Open-drain logic output and logic input. Defaults to pull low a timer delay after the P\G\ pin goes low to indicate a second power good output. Configure according to Table 6."